# EAGLE library part 234-505/000-005 (library con-wago_234)
Serie 234, Stand: 01.01.2012. Die jeweils aktuellen Daten zu diesem Artikel finden Sie in unserem Produktkatalog, den Sie unter www.wago.com einsehen können. As of: 01/01/2012. Please find the newest data for this article in our product catalogue, which can be viewed under www.wago.com.
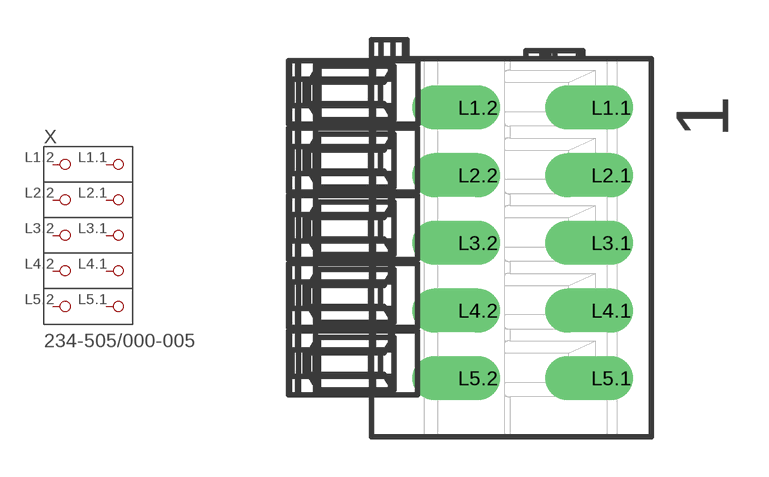
[diagram p35: symbol with the pads of P-234-505; footprint P-234-505]

Designator prefix X

## 234-505/000-005  [P-234-505]
L1.1  P1.1
L1.2  P1.2
L2.1  P2.1
L2.2  P2.2
L3.1  P3.1
L3.2  P3.2
L4.1  P4.1
L4.2  P4.2
L5.1  P5.1
L5.2  P5.2

## Footprint P-234-505 (pad centres in mm)
drill 1.1 offset: L1.1 5.303,4.91; L1.2 0.303,4.91; L2.1 5.303,2.37; L2.2 0.303,2.37; L3.1 5.303,-0.17; L3.2 0.303,-0.17; L4.1 5.303,-2.71; L4.2 0.303,-2.71; L5.1 5.303,-5.25; L5.2 0.303,-5.25